# Altium footprint library R_8.PcbLib: 1 footprints
Each footprint in its own frame and in the unit in brackets; x right, y up, seen from the top. Pads: shape width x height; smd on the part's side, far side on the other; paste and mask are expansions set on the pad; w line width, h text height; cw(c..) or ccw(c..) is an arc to the next point about the centre after c.
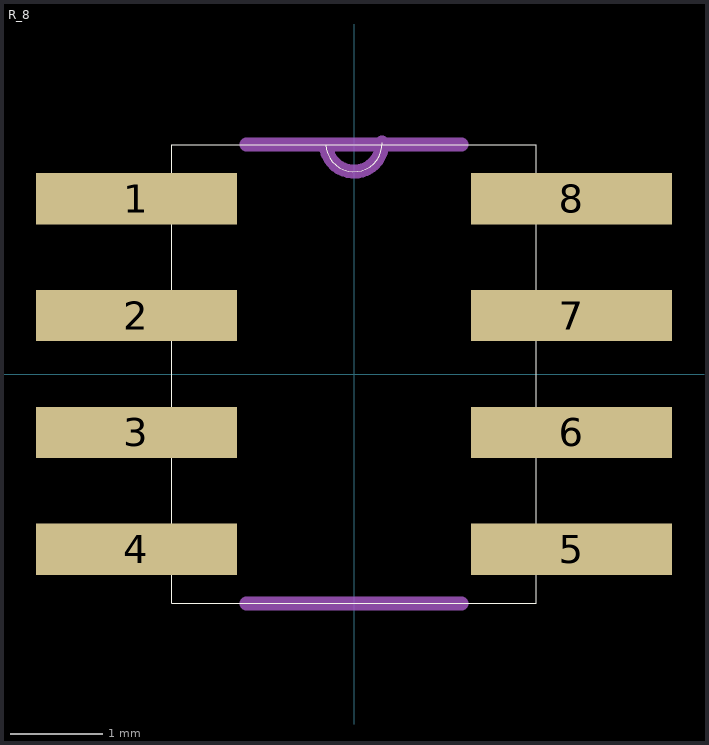
[diagram p0: the footprint, top view; thin cyan lines are the x and y axes]

## R_8 [mil]
pads (8):
  rect 86x22 smd: 1(-93,75) 2(-93,25) 3(-93,-25) 4(-93,-75) 5(93,-75) 6(93,-25) 7(93,25) 8(93,75)
Top Overlay:
  lines w0: -12,98.08 ccw(c0,98.5) 12,98.92 ; -78,-98 -78,98 -12,98 78,98 78,-98 -78,-98
Mechanical 13:
  lines w6: -46,-98 46,-98 ; -46,98 -12,98 46,98 ; -12,98.08 ccw(c0,98.5) 12,98.92
3D body "CMP.1_3D.STEP": height 68.9, standoff 0, extent -118.22,-95 118,97.91